# EAGLE library part SAMTEC-TW10 (library Traficon)
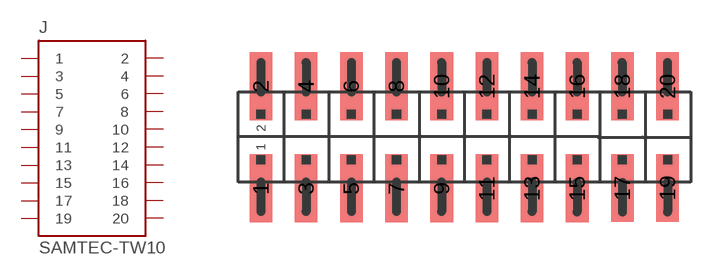
[diagram p213: symbol with the pads of 2MMHEAD2X10; footprint 2MMHEAD2X10]

Designator prefix J

## SAMTEC-TW10  [2MMHEAD2X10]
1  1  pas
2  2  pas
3  3  pas
4  4  pas
5  5  pas
6  6  pas
7  7  pas
8  8  pas
9  9  pas
10  10  pas
11  11  pas
12  12  pas
13  13  pas
14  14  pas
15  15  pas
16  16  pas
17  17
18  18
19  19
20  20

## Footprint 2MMHEAD2X10 (pad centres in mm)
smd 1 x 3: 1 -8.995,-2.277; 2 -8.995,2.243; 3 -6.995,-2.277; 4 -6.995,2.243; 5 -4.995,-2.277; 6 -4.995,2.243; 7 -2.995,-2.277; 8 -2.995,2.243; 9 -0.995,-2.277; 10 -0.995,2.243; 11 1.005,-2.277; 12 1.005,2.243; 13 3.005,-2.277; 14 3.005,2.243; 15 5.005,-2.277; 16 5.005,2.243; 17 7.005,-2.257; 18 7.005,2.243; 19 9.005,-2.257; 20 9.005,2.243